# Altium schematic symbol library TestPoint.SchLib: 1 symbol
Pins are listed as number, name and electrical type; pins without a type are passive.

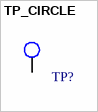
[diagram p0: symbol TP_CIRCLE]

## TP_CIRCLE
designator TP?, comment TP  (value not drawn)
TESTPOINT_CIRCLE
pins: 1